# Altium integrated library Linear Technology PMIC-Switching Reg LTC1174-LTC3901.IntLib: 2647 symbols (part 213 of 310)
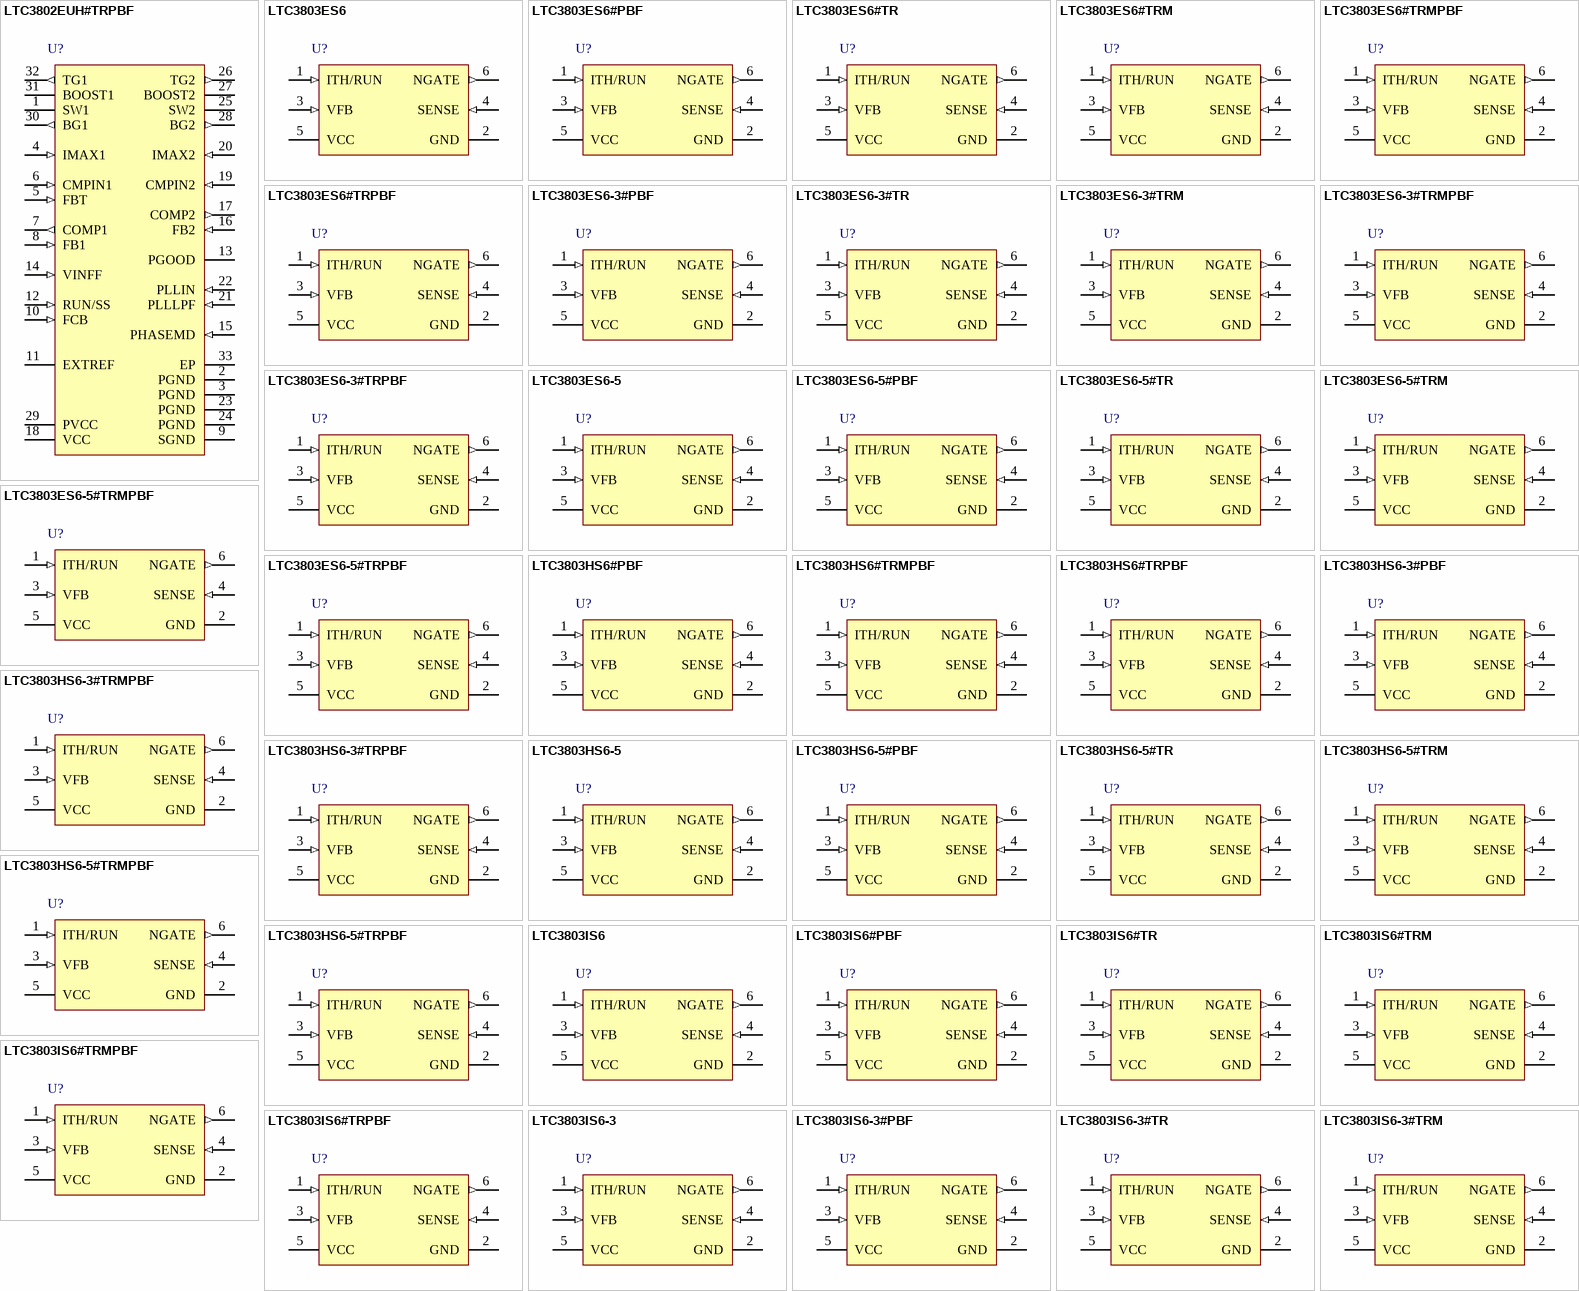
[diagram p340: symbols LTC3802EUH#TRPBF to LTC3803IS6-3#TRM]

## LTC3803ES6#TR
designator U?
Constant Frequency Current Mode Flyback DC/DC Controller, 6-pin SOT23 (S6-6), -40 to 125 degC, Tape and Reel; Manufacturer: Linear Technology; PartNumber: LTC3803ES6#TR; Number of Outputs: 1; PackageReference: S6-6; PackageDescription: 6-Pin Plastic TSOT-23, Body 2.9 x 1.63 mm, Pitch 0.95 mm; Supplier 1: Digi-Key; Supplier Part Number 1: LTC3803ES6#TR-ND; RoHS: FALSE; Code_JEDEC: MO-193
footprint LT-S6-6-TSOT-23_N (SOT23, 6-Leads, Body 2.9x1.75mm, Pitch 0.95mm, IPC Medium Density)
footprint LT-S6-6-TSOT-23_L (SOT23, 6-Leads, Body 2.9x1.75mm, Pitch 0.95mm, IPC High Density)
footprint LT-S6-6-TSOT-23_M (SOT23, 6-Leads, Body 2.9x1.75mm, Pitch 0.95mm, IPC Low Density)
pins: 1 ITH/RUN (in), 2 GND (power) "Ground Pin.", 3 VFB (in) "Receives the feedback voltage from an external resistive divider across the output.", 4 SENSE (in) "This pin performs two functions. It monitors switch current by reading the voltage across an external current sense resistor to ground. It also injects a current ramp that develops slope compensation voltage across an (See Datasheet)", 5 VCC (power) "Supply Pin. Must be closely decoupled to GND (Pin 2).", 6 NGATE (out) "Gate Drive for the External N-channel MOSFET. This pin swings from 0V to VCC."

## LTC3803ES6#TRM
designator U?
Constant Frequency Current Mode Flyback DC/DC Controller, 6-pin SOT23 (S6-6), -40 to 125 degC, Mini Tape and Reel; Manufacturer: Linear Technology; PartNumber: LTC3803ES6#TRM; Number of Outputs: 1; PackageReference: S6-6; PackageDescription: 6-Pin Plastic TSOT-23, Body 2.9 x 1.63 mm, Pitch 0.95 mm; Supplier 1: Digi-Key; Supplier Part Number 1: LTC3803ES6#TRM-ND; RoHS: FALSE; Code_JEDEC: MO-193
footprint LT-S6-6-TSOT-23_N (SOT23, 6-Leads, Body 2.9x1.75mm, Pitch 0.95mm, IPC Medium Density)
footprint LT-S6-6-TSOT-23_L (SOT23, 6-Leads, Body 2.9x1.75mm, Pitch 0.95mm, IPC High Density)
footprint LT-S6-6-TSOT-23_M (SOT23, 6-Leads, Body 2.9x1.75mm, Pitch 0.95mm, IPC Low Density)
pins: 1 ITH/RUN (in), 2 GND (power) "Ground Pin.", 3 VFB (in) "Receives the feedback voltage from an external resistive divider across the output.", 4 SENSE (in) "This pin performs two functions. It monitors switch current by reading the voltage across an external current sense resistor to ground. It also injects a current ramp that develops slope compensation voltage across an (See Datasheet)", 5 VCC (power) "Supply Pin. Must be closely decoupled to GND (Pin 2).", 6 NGATE (out) "Gate Drive for the External N-channel MOSFET. This pin swings from 0V to VCC."